# EAGLE library part ADS1271 (library texas_ffmc)
24-Bit Wide Bandwidth Analaog-to-Digial Converter Source: http://focus.ti.com/lit/ds/symlink/ads1271.pdf
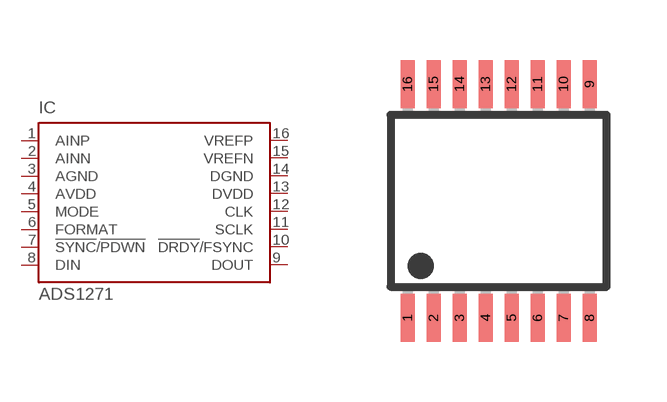
[diagram p79: symbol with the pads of TSSOP16; footprint TSSOP16]

Designator prefix IC

## ADS1271 (MF: TEXAS INSTRUMENT CONNECTORS; MPN: ADS1271IPWR; OC_FARNELL: 9968865; OC_NEWARK: 73J8186)  [TSSOP16]
1  AINP  in
2  AINN  in
3  AGND  pwr
4  AVDD  pwr
5  MODE  in
6  FORMAT  in
7  !SYNC!/!PDWN  in
8  DIN  in
9  DOUT  out
10  !DRDY!/FSYNC
11  SCLK  in
12  CLK  in
13  DVDD  in
14  DGND  in
15  VREFN  in
16  VREFP  in

## Footprint TSSOP16 (pad centres in mm)
PW (R-PDSO-G8) Source: http://focus.ti.com/lit/ds/symlink/ads1271.pdf
smd 0.35 x 1.2: 1 -2.275,-2.925; 2 -1.625,-2.925; 3 -0.975,-2.925; 4 -0.325,-2.925; 5 0.325,-2.925; 6 0.975,-2.925; 7 1.625,-2.925; 8 2.275,-2.925; 9 2.275,2.925; 10 1.625,2.925; 11 0.975,2.925; 12 0.325,2.925; 13 -0.325,2.925; 14 -0.975,2.925; 15 -1.625,2.925; 16 -2.275,2.925